# Altium schematic symbol library PA0431LNL.SchLib: 3 symbols
Pins are listed as number, name and electrical type; pins without a type are passive.

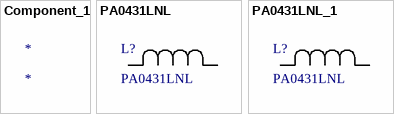
[diagram p0: symbols Component_1 to PA0431LNL_1]

## Component_1
designator *

## PA0431LNL
designator L?
No Description Available; Mfr_Name: Pulse Electronics Corporation; Type: DEV; Copyright: Copyright (C) 2021 Ultra Librarian. All rights reserved.; Manufacturer_Part_Number: PA0431LNL; Digi-Key_Part_Number_1: 553-1503-ND; RefDes: RefDes
footprint IND_PA0431L_PUL
pins: 1, 2

## PA0431LNL_1
designator L?, comment PA0431LNL
No Description Available; Mfr_Name: Pulse Electronics Corporation; Type: DEV; Copyright: Copyright (C) 2021 Ultra Librarian. All rights reserved.; Manufacturer_Part_Number: PA0431LNL; Digi-Key_Part_Number_1: 553-1503-ND; RefDes: RefDes
footprint IND_PA0431L_PUL
pins: 1, 2